# Altium footprint library TE_5103311-1.PcbLib: 1 footprints
Each footprint in its own frame and in the unit in brackets; x right, y up, seen from the top. Pads: shape width x height; smd on the part's side, far side on the other; paste and mask are expansions set on the pad; w line width, h text height; cw(c..) or ccw(c..) is an arc to the next point about the centre after c.
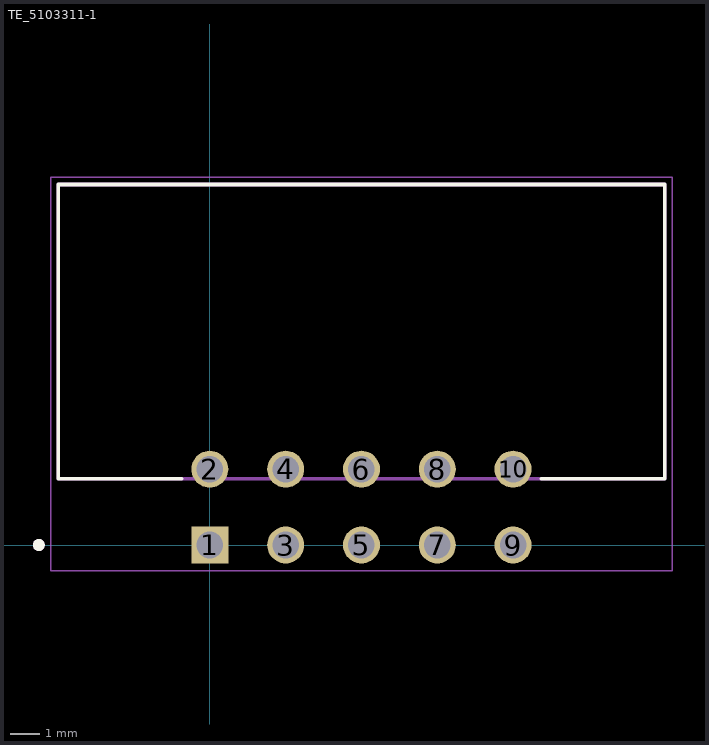
[diagram p0: the footprint, top view; thin cyan lines are the x and y axes]

## TE_5103311-1 [mm]
pads (10):
  rect 1.24x1.24 hole 0.89: 1(0,0)
  round 1.24 hole 0.89: 2(0,2.54) 3(2.54,0) 4(2.54,2.54) 5(5.08,0) 6(5.08,2.54) 7(7.62,0) 8(7.62,2.54) 9(10.16,0) 10(10.16,2.54)
Top Overlay:
  circle w0.2: c-5.73,0 r0.1
  lines w0.127: -0.94,2.223 -5.08,2.223 -5.08,12.078 15.24,12.078 15.24,2.223 11.1,2.223
Mechanical 13:
  circle w0.2: c-5.73,0 r0.1
  lines w0.127: -5.08,2.223 -5.08,12.078 ; -5.08,2.223 15.24,2.223 ; -5.08,2.223 -5.08,12.078 ; -5.08,12.078 15.24,12.078 ; -5.08,12.078 15.24,12.078 ; 15.24,2.223 15.24,12.078 ; 15.24,2.223 15.24,12.078
Mechanical 15:
  lines w0.05: -5.33,-0.87 15.49,-0.87 15.49,12.328 -5.33,12.328 -5.33,-0.87
3D body "5103311-1.stp": height 9.14, standoff -3.43, extent -5.08,-0.311 15.24,12.141